# Altium footprint library COMBINED_PCB_LIB.PcbLib: 30 footprints (part 2 of 2)
Each footprint in its own frame and in the unit in brackets; x right, y up, seen from the top. Pads: shape width x height; smd on the part's side, far side on the other; paste and mask are expansions set on the pad; w line width, h text height; cw(c..) or ccw(c..) is an arc to the next point about the centre after c.
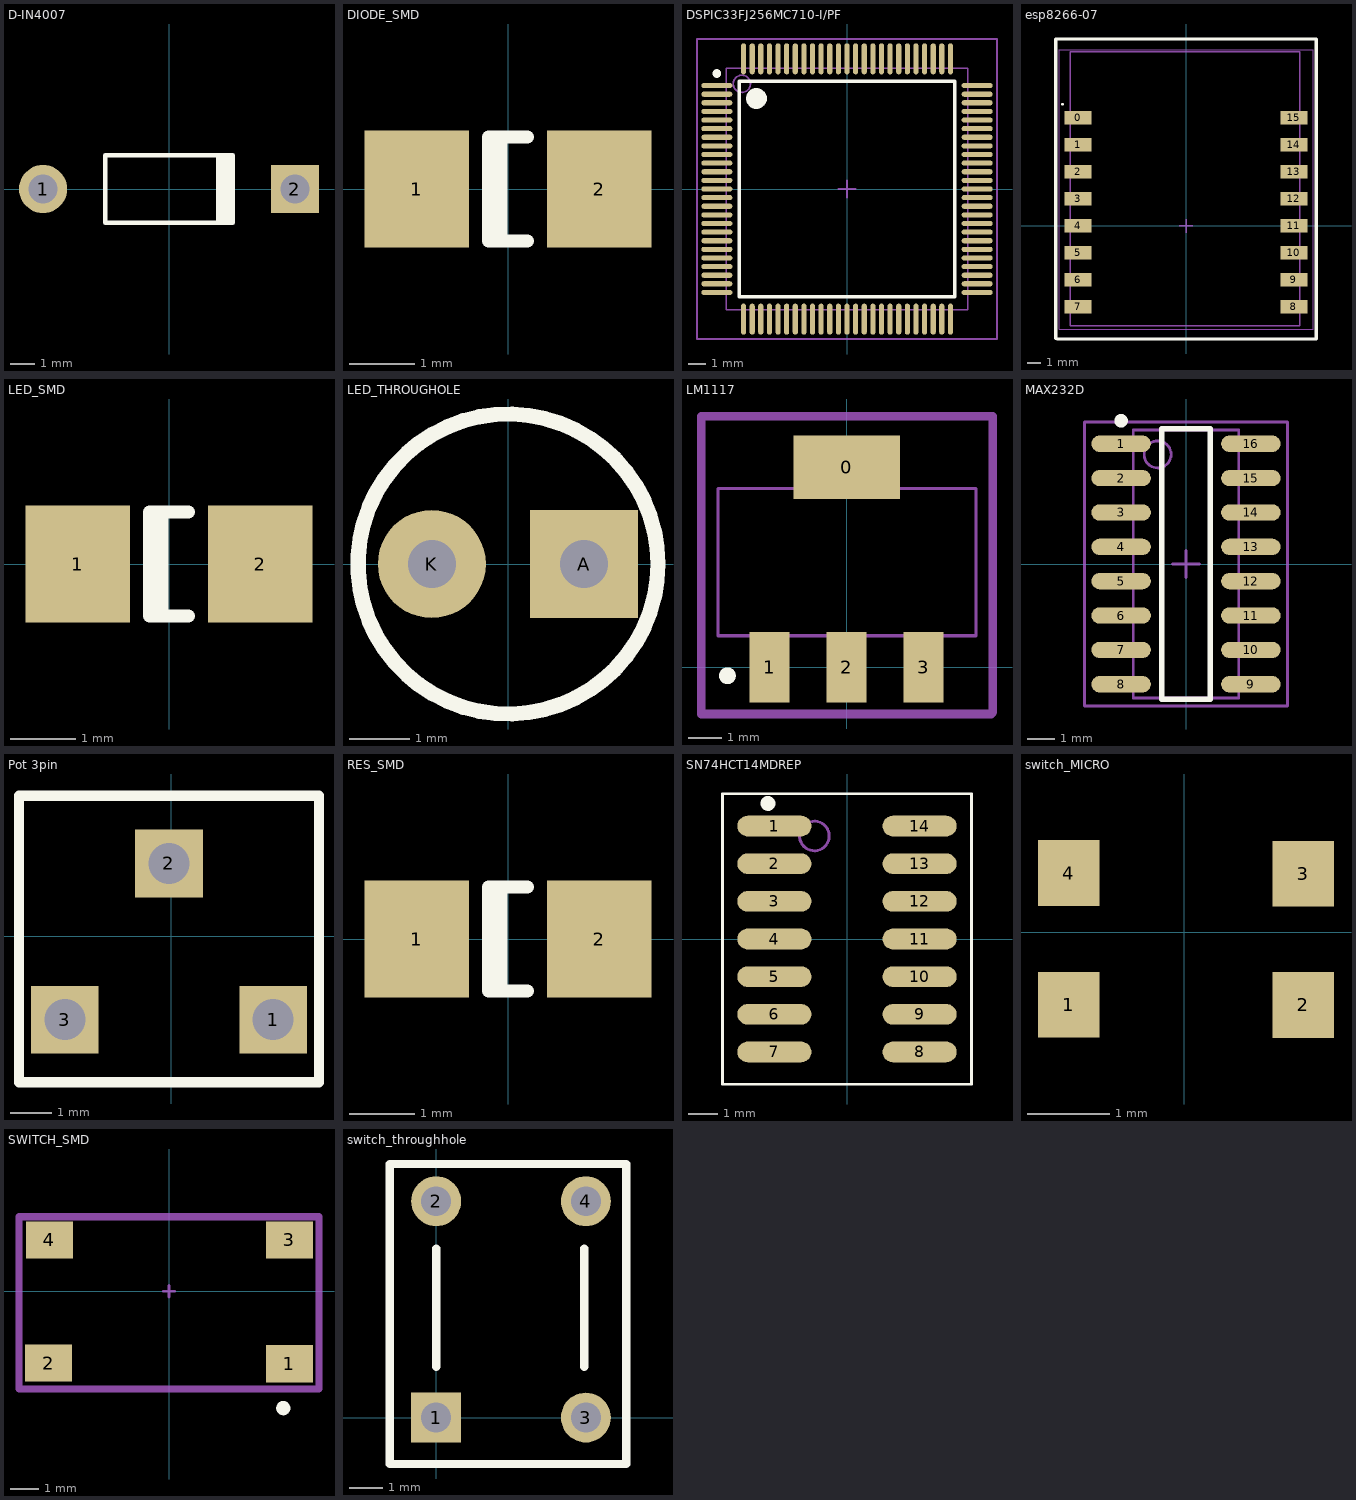
[diagram p1: the footprints below, top view; thin cyan lines are the x and y axes]

## D-IN4007 [mm] "Diode, Axial; Body 5.2 x 2.7 mm (LxDia. max), Lead Dia. 0.86 mm (max)"
height 2.8
pads (2):
  round 2 hole 1.2: 1(-5.23,0)
  rect 2x2 hole 1.2: 2(5.23,0)
Top Overlay:
  rectangle: 1.95,-1.4 2.75,1.4
  lines w0.2: 2.65,-1.4 -2.65,-1.4 -2.65,1.4 2.65,1.4

## DIODE_SMD [mm] "Chip Capacitor; Body 6.4 x 3.2 mm (LxW typ)"
height 0.67
pads (2):
  rect 1.6x1.8 smd: 1(-1.4,0) 2(1.4,0)
Top Overlay:
  lines w0.2: -0.11,-0.8 -0.11,0.8 ; 0.3,-0.8 -0.3,-0.8 -0.3,0.8 0.3,0.8

## DSPIC33FJ256MC710-I/PF [mm] "Thin QFP, 100-Leads, Body 14x14mm, Pitch 0.5mm, IPC Medium Density"
height 1.2
pads (100):
  oval 1.8x0.3 smd: 1(-7.55,6) 2(-7.55,5.5) 3(-7.55,5) 4(-7.55,4.5) 5(-7.55,4) 6(-7.55,3.5) 7(-7.55,3) 8(-7.55,2.5) 9(-7.55,2) 10(-7.55,1.5) 11(-7.55,1) 12(-7.55,0.5) 13(-7.55,0) 14(-7.55,-0.5) 15(-7.55,-1) 16(-7.55,-1.5) 17(-7.55,-2) 18(-7.55,-2.5) 19(-7.55,-3) 20(-7.55,-3.5) 21(-7.55,-4) 22(-7.55,-4.5) 23(-7.55,-5) 24(-7.55,-5.5) 25(-7.55,-6) 51(7.55,-6) 52(7.55,-5.5) 53(7.55,-5) 54(7.55,-4.5) 55(7.55,-4) 56(7.55,-3.5) 57(7.55,-3) 58(7.55,-2.5) 59(7.55,-2) 60(7.55,-1.5) 61(7.55,-1) 62(7.55,-0.5) 63(7.55,0) 64(7.55,0.5) 65(7.55,1) 66(7.55,1.5) 67(7.55,2) 68(7.55,2.5) 69(7.55,3) 70(7.55,3.5) 71(7.55,4) 72(7.55,4.5) 73(7.55,5) 74(7.55,5.5) 75(7.55,6)
  oval 0.3x1.8 smd: 26(-6,-7.55) 27(-5.5,-7.55) 28(-5,-7.55) 29(-4.5,-7.55) 30(-4,-7.55) 31(-3.5,-7.55) 32(-3,-7.55) 33(-2.5,-7.55) 34(-2,-7.55) 35(-1.5,-7.55) 36(-1,-7.55) 37(-0.5,-7.55) 38(0,-7.55) 39(0.5,-7.55) 40(1,-7.55) 41(1.5,-7.55) 42(2,-7.55) 43(2.5,-7.55) 44(3,-7.55) 45(3.5,-7.55) 46(4,-7.55) 47(4.5,-7.55) 48(5,-7.55) 49(5.5,-7.55) 50(6,-7.55) 76(6,7.55) 77(5.5,7.55) 78(5,7.55) 79(4.5,7.55) 80(4,7.55) 81(3.5,7.55) 82(3,7.55) 83(2.5,7.55) 84(2,7.55) 85(1.5,7.55) 86(1,7.55) 87(0.5,7.55) 88(0,7.55) 89(-0.5,7.55) 90(-1,7.55) 91(-1.5,7.55) 92(-2,7.55) 93(-2.5,7.55) 94(-3,7.55) 95(-3.5,7.55) 96(-4,7.55) 97(-4.5,7.55) 98(-5,7.55) 99(-5.5,7.55) 100(-6,7.55)
Top Overlay:
  circle w0.25: c-7.55,6.7 r0.125
  circle w0.6: c-5.25,5.25 r0.3
  lines w0.2: -6.25,-6.25 -6.25,6.25 6.25,6.25 6.25,-6.25 -6.25,-6.25
Mechanical 13:
  circle w0.1: c-6.1,6.1 r0.5
  lines w0.1: -7,-7 -7,7 7,7 7,-7 -7,-7
Mechanical 15:
  lines w0.1: -0.5,0 0.5,0 ; 0,-0.5 0,0.5 ; -8.7,-8.7 -8.7,8.7 8.7,8.7 8.7,-8.7 -8.7,-8.7
3D body: height 1.2, standoff 0, extent -7,-7 7,7

## esp8266-07 [mm] "TSOP, 8-Leads, Body 2.90x1.63mm, Pitch 0.65mm, IPC Medium Density"
height 1.2
pads (16):
  rect 2x1 smd: 0(-8,8) 1(-8,6) 2(-8,4) 3(-8,2) 4(-8,0) 5(-8,-2) 6(-8,-4) 7(-8,-6) 8(8,-6) 9(8,-4) 10(8,-2) 11(8,0) 12(8,2) 13(8,4) 14(8,6) 15(8,8)
Top Overlay:
  circle w0.15: c-9.144,9.017 r0.025
  lines w0.254: -9.652,-8.34 -9.652,13.843 -4.572,13.843 4.572,13.843 9.652,13.843 9.652,-8.382 -9.525,-8.382
Mechanical 13:
  lines w0.1: -8.56,-7.417 8.433,-7.417 8.433,12.903 -8.56,12.903 -8.56,-7.417
Mechanical 15:
  lines w0.05: -9.373,-7.645 -9.373,13.056 9.423,13.056 9.423,-7.645 -9.373,-7.645
  lines w0.1: -0.5,0 0.5,0 ; 0,-0.5 0,0.5
3D body: height 1.45, standoff 0.15, extent -8.534,-7.417 8.458,12.878

## LED_SMD [mm] "Chip Capacitor; Body 6.4 x 3.2 mm (LxW typ)"
height 0.67
pads (2):
  rect 1.6x1.8 smd: 1(-1.4,0) 2(1.4,0)
Top Overlay:
  lines w0.2: -0.11,-0.8 -0.11,0.8 ; 0.3,-0.8 -0.3,-0.8 -0.3,0.8 0.3,0.8

## LED_THROUGHOLE [mm] "led"
pads (2):
  rect 1.8x1.8 hole 0.8: A(1.27,0)
  round 1.8 hole 0.8: K(-1.27,0)
Top Overlay:
  circle w0.254: c0,0 r2.5

## LM1117 [mm] "SOT23, 3-Leads, Body 2.9x1.3mm, Pitch 0.95mm, Lead Span 2.5mm, IPC Low Density"
height 1.1
pads (4):
  rect 3.175x1.905 smd: 0(0,5.969)
  rect 1.2x2.1 smd: 1(-2.3,0) 2(0,0) 3(2.3,0)
Top Overlay:
  circle w0.25: c-3.556,-0.254 r0.125
Mechanical 13:
  lines w0.1: -3.835,0.94 3.861,0.94 3.861,5.334 -3.835,5.334 -3.835,0.94
Mechanical 15:
  lines w0.1: -0.5,0 0.5,0 ; 0,-0.5 0,0.5
  lines w0.254: -4.343,-1.397 4.318,-1.397 4.369,-1.346 4.369,7.493 -4.343,7.493 -4.343,-1.397
3D body: height 1.1, standoff 0, extent -3.835,0.914 3.835,5.309

## MAX232D [mm] "SOIC, 16-Leads, Body 9.9x3.9mm, Pitch 1.27mm, IPC Medium Density"
height 1.75
pads (16):
  oval 2.2x0.6 smd: 1(-2.4,4.445) 2(-2.4,3.175) 3(-2.4,1.905) 4(-2.4,0.635) 5(-2.4,-0.635) 6(-2.4,-1.905) 7(-2.4,-3.175) 8(-2.4,-4.445) 9(2.4,-4.445) 10(2.4,-3.175) 11(2.4,-1.905) 12(2.4,-0.635) 13(2.4,0.635) 14(2.4,1.905) 15(2.4,3.175) 16(2.4,4.445)
Top Overlay:
  circle w0.25: c-2.4,5.295 r0.125
  lines w0.2: -0.9,-5 -0.9,5 0.9,5 0.9,-5 -0.9,-5
Mechanical 13:
  circle w0.1: c-1.05,4.05 r0.5
  lines w0.1: -1.95,-4.95 -1.95,4.95 1.95,4.95 1.95,-4.95 -1.95,-4.95
Mechanical 15:
  lines w0.1: -0.5,0 0.5,0 ; 0,-0.5 0,0.5 ; -3.75,-5.25 -3.75,5.25 3.75,5.25 3.75,-5.25 -3.75,-5.25
3D body: height 1.75, standoff 0, extent -1.95,-4.95 1.95,4.95

## Pot 3pin [mm] "Through hole"
pads (3):
  rect 1.65x1.65 hole 1: 1(2.489,-2.032) 2(-0.051,1.778) 3(-2.591,-2.032)
Top Overlay:
  lines w0.254: -3.708,-3.556 -3.708,3.429 3.607,3.429 3.607,-3.556 -3.708,-3.556

## RES_SMD [mm] "Chip Capacitor; Body 6.4 x 3.2 mm (LxW typ)"
height 0.67
pads (2):
  rect 1.6x1.8 smd: 1(-1.4,0) 2(1.4,0)
Top Overlay:
  lines w0.2: -0.11,-0.8 -0.11,0.8 ; 0.3,-0.8 -0.3,-0.8 -0.3,0.8 0.3,0.8

## SN74HCT14MDREP [mm] "14-Pin Small Outline Integrated Circuit 1.27 mm Pitch, IPC Low Density"
height 1.75
pads (14):
  oval 2.5x0.7 smd: 1(-2.45,3.81) 2(-2.45,2.54) 3(-2.45,1.27) 4(-2.45,0) 5(-2.45,-1.27) 6(-2.45,-2.54) 7(-2.45,-3.81) 8(2.45,-3.81) 9(2.45,-2.54) 10(2.45,-1.27) 11(2.45,0) 12(2.45,1.27) 13(2.45,2.54) 14(2.45,3.81)
Top Overlay:
  circle w0.25: c-2.667,4.572 r0.125
  lines w0.1: -4.2,-4.9 4.2,-4.9 4.2,4.9 -4.2,4.9 -4.2,-4.9
Mechanical 13:
  circle w0.1: c-1.1,3.475 r0.5
3D body: height 1.75, standoff 0, extent -2,-4.375 2,4.375

## switch_MICRO [mm] "2.6*3.6,height 0.65"
height 0.65
pads (4):
  rect 0.75x0.8 smd: 1(-1.406,-0.879) 2(1.444,-0.881) 3(1.444,0.716) 4(-1.406,0.723)
3D body: height 1.45, standoff 0.15, extent -0.879,-1.379 0.921,1.221

## SWITCH_SMD [mm] "Switch, Push Button, Tactile"
height 4.3
pads (4):
  rect 1.65x1.3 smd: 1(4.216,-2.54) 2(-4.216,-2.515) 3(4.216,1.803) 4(-4.191,1.803)
Top Overlay:
  circle w0.25: c4.007,-4.095 r0.125
Mechanical 1:
  lines w0.1: -0.2,0 0.2,0 ; 0,-0.2 0,0.2
Mechanical 13:
  lines w0.254: -5.258,0.838 -5.258,2.616 5.258,2.616 5.258,-3.429 -5.258,-3.429 -5.258,0.889
3D body: height 1.75, standoff 0, extent -4.572,-3.353 4.572,2.667

## switch_throughhole [mm] "Connector; IDC, PCB Transition - 2 Rows, Thru-Hole; 34 Position; Vertical; Pitch 2.54 mm; Body 48.48 x 6.1 x 7.45 mm (LxWxH)"
height 7.45
pads (4):
  rect 1.5x1.5 hole 0.9: 1(0,0)
  round 1.5 hole 0.9: 2(0,6.5) 3(4.5,0) 4(4.5,6.5)
Top Overlay:
  lines w0.254: 0,1.524 0,5.08 ; 4.445,1.524 4.445,5.08 ; -1.397,-1.397 5.715,-1.397 5.715,-1.016 5.715,7.62 -1.397,7.62 -1.397,-1.397